# EAGLE library part STPIC6C595 (library misc)
Shift Register Open Drain 1 8 TSSOP-16 Shift Registers RoHS
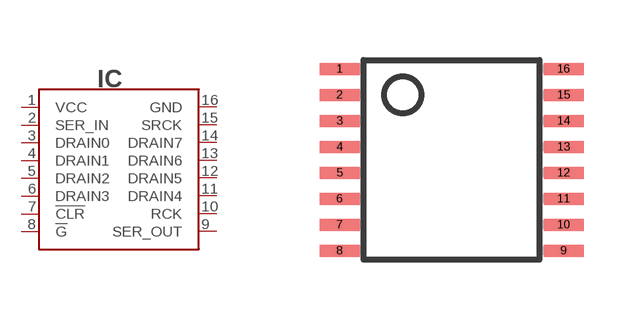
[diagram p10: symbol with the pads of TSSOP16; footprint TSSOP16]

Designator prefix IC

## STPIC6C595-TSSOP16 (LCSC#: C222081; MANF: STMicroelectronics; MANF#: STPIC6C595TTR)  [TSSOP16]
1  VCC
2  SER_IN
3  DRAIN0
4  DRAIN1
5  DRAIN2
6  DRAIN3
7  !CLR
8  !G
9  SER_OUT
10  RCK
11  DRAIN4
12  DRAIN5
13  DRAIN6
14  DRAIN7
15  SRCK
16  GND

## Footprint TSSOP16 (pad centres in mm)
Thin Shrink Small Outline Plastic 16 3D model <https://grabcad.com/library/msop-and-tssop-packages-1>
smd 1 x 0.3: 1 -2.8,2.275; 2 -2.8,1.625; 3 -2.8,0.975; 4 -2.8,0.325; 5 -2.8,-0.325; 6 -2.8,-0.975; 7 -2.8,-1.625; 8 -2.8,-2.275; 9 2.8,-2.275; 10 2.8,-1.625; 11 2.8,-0.975; 12 2.8,-0.325; 13 2.8,0.325; 14 2.8,0.975; 15 2.8,1.625; 16 2.8,2.275